# EAGLE library part RNET8B (library DAC)
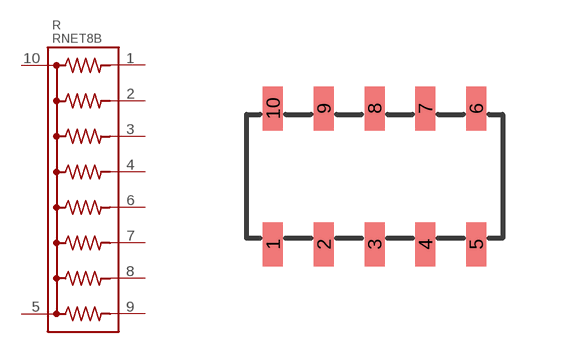
[diagram p34: symbol with the pads of EXBA10; footprint EXBA10]

Designator prefix R

## RNET8BP  [EXBA10]
1  10  pas
2  9  pas
3  8  pas
4  7  pas
5  C2  pas
6  6  pas
7  5  pas
8  4  pas
9  3  pas
10  C1  pas

## RNET8BE  [EXBA10]
1  C1  pas
2  10  pas
3  9  pas
4  8  pas
5  7  pas
6  6  pas
7  5  pas
8  4  pas
9  3  pas
10  C2  pas

## Footprint EXBA10 (pad centres in mm)
smd 0.5 x 1.1: 1 -2.54,-1.7; 2 -1.27,-1.7; 3 0,-1.7; 4 1.27,-1.7; 5 2.54,-1.7; 6 2.54,1.7; 7 1.27,1.7; 8 0,1.7; 9 -1.27,1.7; 10 -2.54,1.7